# EAGLE library part ADXRS150 (library TEABOX-LIB)
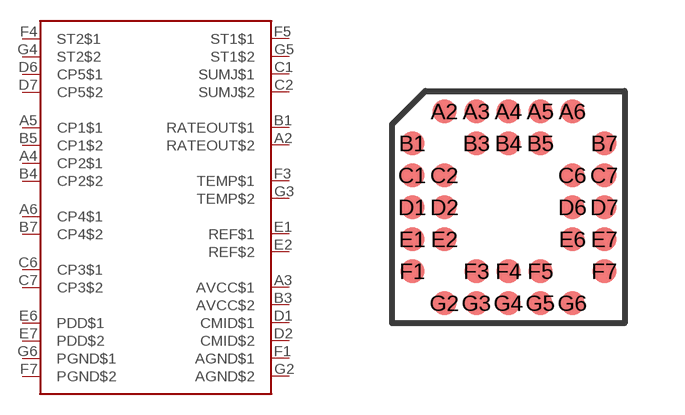
[diagram p29: symbol with the pads of CSPBGA-32; footprint CSPBGA-32]

Designator prefix U

## ADXRS150  [CSPBGA-32]
A2  RATEOUT$2
A3  AVCC$1
A4  CP2$1
A5  CP1$1
A6  CP4$1
B1  RATEOUT$1
B3  AVCC$2
B4  CP2$2
B5  CP1$2
B7  CP4$2
C1  SUMJ$1
C2  SUMJ$2
C6  CP3$1
C7  CP3$2
D1  CMID$1
D2  CMID$2
D6  CP5$1
D7  CP5$2
E1  REF$1
E2  REF$2
E6  PDD$1
E7  PDD$2
F1  AGND$1
F3  TEMP$1
F4  ST2$1
F5  ST1$1
F7  PGND$2
G2  AGND$2
G3  TEMP$2
G4  ST2$2
G5  ST1$2
G6  PGND$1

## Footprint CSPBGA-32 (pad centres in mm)
32-Lead Chip Scale Ball Grid Array
smd 0.6 x 0.6: A2 -1.6,2.4; A3 -0.8,2.4; A4 0,2.4; A5 0.8,2.4; A6 1.6,2.4; B1 -2.4,1.6; B3 -0.8,1.6; B4 0,1.6; B5 0.8,1.6; B7 2.4,1.6; C1 -2.4,0.8; C2 -1.6,0.8; C6 1.6,0.8; C7 2.4,0.8; D1 -2.4,0; D2 -1.6,0; D6 1.6,0; D7 2.4,0; E1 -2.4,-0.8; E2 -1.6,-0.8; E6 1.6,-0.8; E7 2.4,-0.8; F1 -2.4,-1.6; F3 -0.8,-1.6; F4 0,-1.6; F5 0.8,-1.6; F7 2.4,-1.6; G2 -1.6,-2.4; G3 -0.8,-2.4; G4 0,-2.4; G5 0.8,-2.4; G6 1.6,-2.4